# Altium footprint library RES2512.PcbLib: 2 footprints
Each footprint in its own frame and in the unit in brackets; x right, y up, seen from the top. Pads: shape width x height; smd on the part's side, far side on the other; paste and mask are expansions set on the pad; w line width, h text height; cw(c..) or ccw(c..) is an arc to the next point about the centre after c.
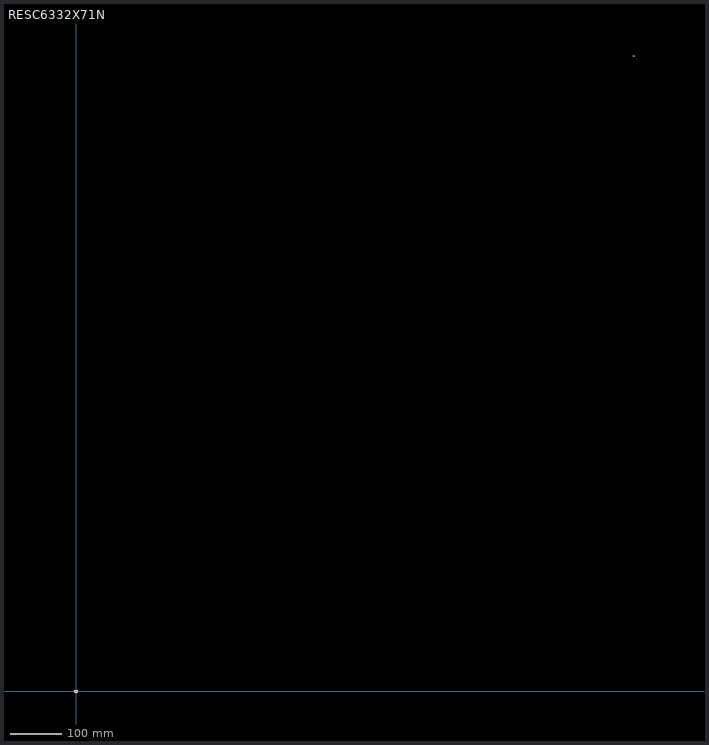
[diagram p0: the footprints below, top view; thin cyan lines are the x and y axes]

## PCBComponent_1 [mil]

## RESC6332X71N [mil]
pads (4):
  rect 47x132 smd: 1(-117,0) 2(117,0)
  rect 27.56x35.43 smd: 1(42865.47,48855) 2(42924.53,48855)
Top Overlay:
  lines w6: -80,-66 80,-66 ; -80,66 80,66
  lines w7.87: 42887.13,48841.22 42902.87,48841.22 ; 42887.13,48868.78 42902.87,48868.78
Mechanical 1:
  lines w0: -94,-66 94,-66 ; -94,-66 -127,-66 -127,66 -94,66 ; -94,-66 -94,66 ; -94,66 94,66 ; 94,-66 127,-66 127,66 94,66 ; 94,-66 94,66
Mechanical 13:
  lines w3.94: 42861.54,48836.3 42928.46,48836.3 42928.46,48873.7 42861.54,48873.7 42861.54,48836.3
Mechanical 15:
  lines w3.94: -18.7,0 18.7,0 ; 0,-18.7 0,18.7 ; 42876.3,48855 42913.7,48855 ; 42895,48836.3 42895,48873.7 ; -145,-70 -145,70 145,70 145,-70 -145,-70 ; 42847.76,48833.35 42942.24,48833.35 42942.24,48876.65 42847.76,48876.65 42847.76,48833.35
3D body: height 35.43, standoff 0, extent 42861.54,48836.3 42928.46,48873.7
3D body "RES2512.stp": height 21.65, standoff 0, extent -124.01,-61.01 124.02,61.03